# Altium footprint library DanSquidAdapterParts.PcbLib: 13 footprints
Each footprint in its own frame and in the unit in brackets; x right, y up, seen from the top. Pads: shape width x height; smd on the part's side, far side on the other; paste and mask are expansions set on the pad; w line width, h text height; cw(c..) or ccw(c..) is an arc to the next point about the centre after c.
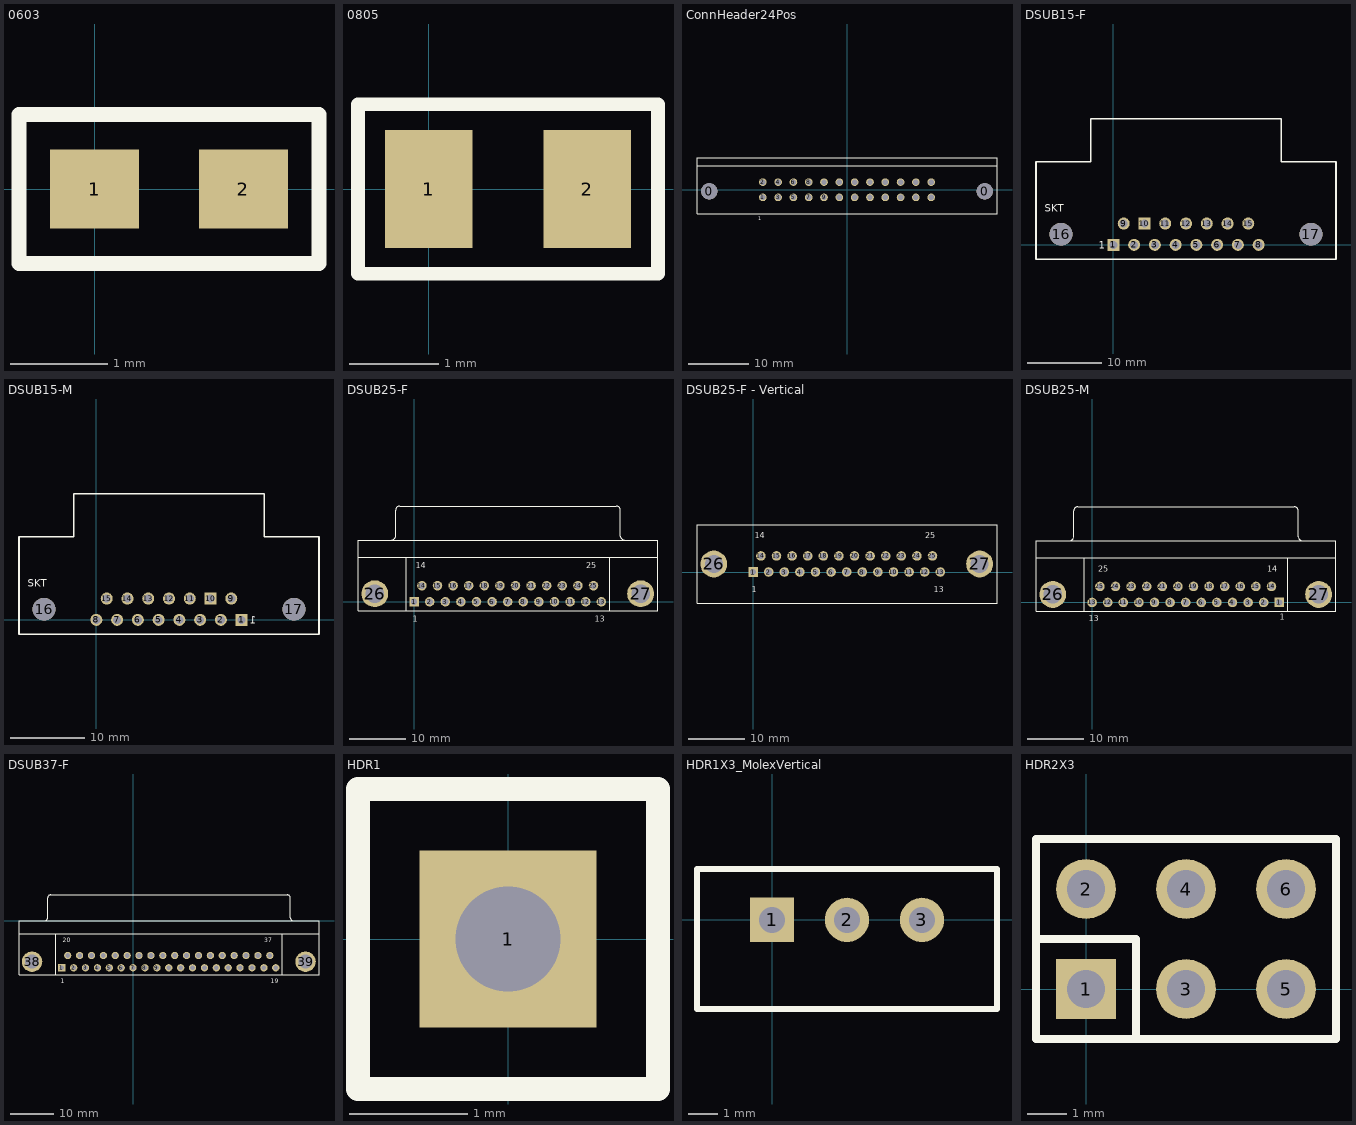
[diagram p0: the footprints below, top view; thin cyan lines are the x and y axes]

## 0603 [mil]
pads (2):
  rect 36x32 smd: 1(0,0) 2(60,0)
Top Overlay:
  lines w6: -30.5,-30 -30.5,30 90.5,30 90.5,-30 -30.5,-30

## 0805 [mil]
pads (2):
  rect 38.5x52 smd: 1(0,0) 2(70,0)
Top Overlay:
  lines w6: -31.25,-37.5 -31.25,37.5 101.25,37.5 101.25,-37.5 -31.25,-37.5

## ConnHeader24Pos [mil] "24 pin Vertical header (AHJ24L-ND)"
height 556.69
pads (26):
  round 105.91 hole 105.91: 0(-900,-10) 0(900,-10)
  round 50 hole 35: 1(-550,-50) 2(-550,50) 3(-450,-50) 4(-450,50) 5(-350,-50) 6(-350,50) 7(-250,-50) 8(-250,50) 9(-150,-50) 10(-150,50) 11(-50,-50) 12(-50,50) 13(50,-50) 14(50,50) 15(150,-50) 16(150,50) 17(250,-50) 18(250,50) 19(350,-50) 20(350,50) 21(450,-50) 22(450,50) 23(550,-50) 24(550,50)
Top Overlay:
  lines w3: -980,157.5 -980,210 980,210 980,157.5 ; -980,157.5 -980,-157.5 980,-157.5 980,157.5 ; -980,157.5 980,157.5
  text "1" at -580,-200 h25

## DSUB15-F [mil]
pads (17):
  rect 63x63 hole 42: 1(0,0) 10(163.5,112)
  round 63 hole 42: 2(109,0) 3(218,0) 4(327,0) 5(436,0) 6(545,0) 7(654,0) 8(763,0) 9(54.5,112) 11(272.5,112) 12(381.5,112) 13(490.5,112) 14(599.5,112) 15(708.5,112)
  round 120 hole 120: 16(-274.5,56) 17(1037.5,56)
Top Overlay:
  lines w8: -406,-75.5 1169,-75.5 1169,437 881.5,437 881.5,662 -118.5,662 -118.5,437 -406,437 -406,-75.5
  text "SKT" at -360.67,174.88 h37.5
  text "1" at -77.5,-20 h37.5
Bottom Overlay:
  text "9" at 42.62,211.38 h37.5
  text "8" at 837.62,-33.63 h37.5
  text "15" at 743.72,151.38 h37.5

## DSUB15-M [mil]
pads (17):
  rect 63x63 hole 42: 1(763,0) 10(599.5,112)
  round 63 hole 42: 2(654,0) 3(545,0) 4(436,0) 5(327,0) 6(218,0) 7(109,0) 8(0,0) 9(708.5,112) 11(490.5,112) 12(381.5,112) 13(272.5,112) 14(163.5,112) 15(54.5,112)
  round 120 hole 120: 16(-274.5,56) 17(1037.5,56)
Top Overlay:
  lines w8: -406,-75.5 1169,-75.5 1169,437 881.5,437 881.5,662 -118.5,662 -118.5,437 -406,437 -406,-75.5
  text "1" at 840.5,-20 h37.5
  text "SKT" at -360.67,174.88 h37.5
Bottom Overlay:
  text "15" at 19.28,151.38 h37.5
  text "8" at -74.62,-33.63 h37.5
  text "9" at 720.38,211.38 h37.5

## DSUB25-F [mm]
pads (27):
  rect 1.69x1.69 hole 1.09: 1(0,0)
  round 1.69 hole 1.09: 2(2.761,0) 3(5.522,0) 4(8.283,0) 5(11.044,0) 6(13.805,0) 7(16.566,0) 8(19.327,0) 9(22.088,0) 10(24.849,0) 11(27.61,0) 12(30.371,0) 13(33.132,0) 14(1.38,2.84) 15(4.141,2.84) 16(6.903,2.84) 17(9.663,2.84) 18(12.424,2.84) 19(15.185,2.84) 20(17.946,2.84) 21(20.708,2.84) 22(23.468,2.84) 23(26.229,2.84) 24(28.99,2.84) 25(31.751,2.84)
  round 4.76 hole 3.26: 26(-6.96,1.42) 27(40.092,1.42)
Top Overlay:
  lines w0.2: -9.93,7.92 43.17,7.92 ; -3.975,10.925 ccw(c-3.975,11.62) -3.28,11.62 -3.28,16.22 ; -3.275,16.225 cw(c-2.58,16.225) -2.58,16.92 35.82,16.92 cw(c35.82,16.225) 36.515,16.225 ; -1.38,-1.58 -1.38,7.92 ; 34.62,-1.58 34.62,7.92 ; 36.52,16.22 36.52,11.62 ccw(c37.215,11.62) 37.215,10.925 ; -9.93,-1.58 -9.93,10.92 43.17,10.92 43.17,-1.58 -9.93,-1.58
  text "25" at 30.501,5.945 h1.02
  text "14" at 0.255,5.945 h1.02
  text "13" at 32.007,-3.555 h1.02
  text "1" at -0.25,-3.555 h1.02

## DSUB25-F - Vertical [mm] "6225FE-ND"
pads (27):
  rect 1.69x1.69 hole 1.09: 1(0,0)
  round 1.69 hole 1.09: 2(2.761,0) 3(5.522,0) 4(8.283,0) 5(11.044,0) 6(13.805,0) 7(16.566,0) 8(19.327,0) 9(22.088,0) 10(24.849,0) 11(27.61,0) 12(30.371,0) 13(33.132,0) 14(1.38,2.84) 15(4.141,2.84) 16(6.903,2.84) 17(9.663,2.84) 18(12.424,2.84) 19(15.185,2.84) 20(17.946,2.84) 21(20.708,2.84) 22(23.468,2.84) 23(26.229,2.84) 24(28.99,2.84) 25(31.751,2.84)
  round 4.76 hole 3.175: 26(-6.96,1.42) 27(40.092,1.42)
Top Overlay:
  lines w0.2: -9.931,-5.499 43.169,-5.499 43.169,8.331 -9.931,8.331 -9.931,-5.499
  text "25" at 30.501,5.945 h1.02
  text "14" at 0.255,5.945 h1.02
  text "13" at 32.007,-3.555 h1.02
  text "1" at -0.25,-3.555 h1.02

## DSUB25-M [mm]
pads (27):
  rect 1.69x1.69 hole 1.09: 1(33.132,0)
  round 1.69 hole 1.09: 2(30.371,0) 3(27.61,0) 4(24.849,0) 5(22.088,0) 6(19.327,0) 7(16.566,0) 8(13.805,0) 9(11.044,0) 10(8.283,0) 11(5.522,0) 12(2.761,0) 13(0,0) 14(31.751,2.84) 15(28.99,2.84) 16(26.229,2.84) 17(23.468,2.84) 18(20.708,2.84) 19(17.946,2.84) 20(15.185,2.84) 21(12.424,2.84) 22(9.663,2.84) 23(6.903,2.84) 24(4.141,2.84) 25(1.38,2.84)
  round 4.76 hole 3.26: 26(-6.96,1.42) 27(40.092,1.42)
Top Overlay:
  lines w0.2: -9.93,7.92 43.17,7.92 ; -3.975,10.925 ccw(c-3.975,11.62) -3.28,11.62 -3.28,16.22 ; -3.275,16.225 cw(c-2.58,16.225) -2.58,16.92 35.82,16.92 cw(c35.82,16.225) 36.515,16.225 ; -1.38,-1.58 -1.38,7.92 ; 34.62,-1.58 34.62,7.92 ; 36.52,16.22 36.52,11.62 ccw(c37.215,11.62) 37.215,10.925 ; -9.93,-1.58 -9.93,10.92 43.17,10.92 43.17,-1.58 -9.93,-1.58
  text "1" at 33.203,-3.05 h1.02
  text "13" at -0.579,-3.304 h1.02
  text "14" at 31.044,5.459 h1.02
  text "25" at 1.072,5.459 h1.02

## DSUB37-F [mm] "DSUB 37Pin Female"
height 12.55
pads (39):
  rect 1.69x1.69 hole 1.09: 1(-16.566,-10.92)
  round 1.69 hole 1.09: 2(-13.806,-10.92) 3(-11.046,-10.92) 4(-8.286,-10.92) 5(-5.526,-10.92) 6(-2.766,-10.92) 7(-0.006,-10.92) 8(2.754,-10.92) 9(5.514,-10.92) 10(8.274,-10.92) 11(11.034,-10.92) 12(13.794,-10.92) 13(16.554,-10.92) 14(19.314,-10.92) 15(22.074,-10.92) 16(24.834,-10.92) 17(27.594,-10.92) 18(30.354,-10.92) 19(33.114,-10.92) 20(-15.187,-8.08) 21(-12.427,-8.08) 22(-9.667,-8.08) 23(-6.907,-8.08) 24(-4.147,-8.08) 25(-1.387,-8.08) 26(1.373,-8.08) 27(4.133,-8.08) 28(6.893,-8.08) 29(9.653,-8.08) 30(12.413,-8.08) 31(15.173,-8.08) 32(17.933,-8.08) 33(20.693,-8.08) 34(23.453,-8.08) 35(26.213,-8.08) 36(28.973,-8.08) 37(31.733,-8.08)
  round 4.76 hole 3.26: 38(-23.476,-9.5) 39(40.024,-9.5)
Top Overlay:
  lines w0.2: -26.496,-3 -17.946,-3 ; -20.541,0.005 ccw(c-20.541,0.7) -19.846,0.7 -19.846,5.3 ; -19.841,5.305 cw(c-19.146,5.305) -19.146,6 35.802,6 cw(c35.802,5.305) 36.497,5.305 ; -17.946,-12.5 -17.946,-3 ; 34.602,-3 34.602,-12.5 ; 36.502,5.3 36.502,0.7 ccw(c37.197,0.7) 37.197,0.005 ; 43.152,-3 -17.946,-3 ; 34.602,-12.5 43.152,-12.5 43.152,0 -26.496,0 -26.496,-12.5 34.602,-12.5
  text "1" at -16.816,-14.475 h1.02
  text "19" at 31.989,-14.475 h1.02
  text "20" at -16.31,-4.975 h1.02
  text "37" at 30.484,-4.975 h1.02

## HDR1 [mm]
pads (1):
  rect 1.5x1.5 hole 0.889: 1(0,0)
Top Overlay:
  lines w0.2: -1.27,-1.27 -1.27,1.27 1.27,1.27 1.27,-1.27 -1.27,-1.27

## HDR1X3_MolexVertical [mm] "WM2889"
pads (3):
  rect 1.5x1.5 hole 0.889: 1(0,0)
  round 1.5 hole 0.889: 2(2.54,0) 3(5.08,0)
Top Overlay:
  lines w0.2: -2.54,-3.023 -2.54,1.727 7.62,1.727 7.62,-3.023 -2.54,-3.023

## HDR2X3 [mil]
pads (6):
  rect 60x60 hole 38: 1(0,0)
  round 60 hole 38: 2(0,100) 3(100,0) 4(100,100) 5(200,0) 6(200,100)
Top Overlay:
  lines w7.87: -50,50 50,50 50,-50 ; -50,-50 250,-50 250,150 -50,150 -50,-50

## PCBComponent_1 [mil]